# EAGLE library part 10103594-0001LF (library con-fci)
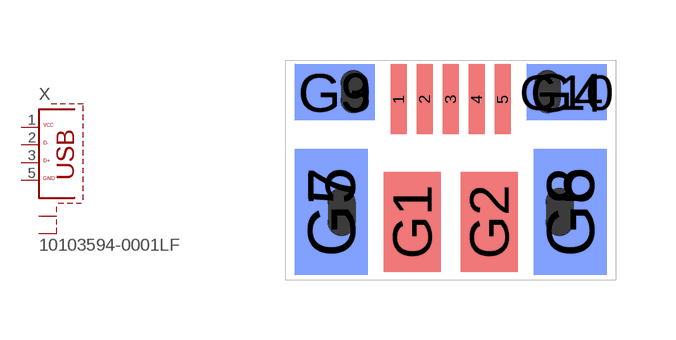
[diagram p1: symbol with the pads of USBMICROB; footprint USBMICROB]

Designator prefix X

## 10103594-0001LF  [USBMICROB]
1  VCC  pas
2  D-  pas
3  D+  pas
5  GND  pas
G1  S1  pas
G2  S2  pas
G3  S3  pas
G4  S4  pas
G5  S5  pas
G6  S6  pas
G7  S7  pas
G8  S8  pas
G9  S9  pas
G10  S10  pas

## Footprint USBMICROB (pad centres in mm)
smd 0.4 x 1.75: 1 -1.3,2.825; 2 -0.65,2.825; 3 0,2.825; 4 0.65,2.825; 5 1.3,2.825
smd 1.425 x 2.5: G1 -0.963,-0.25; G2 0.963,-0.25
smd 2 x 1.4: G3 -2.9,3; G4 2.9,3
smd 1.825 x 3.15: G5 -2.987,0; G6 2.987,0
smd 1.825 x 3.15 bottom: G7 -2.987,0; G8 2.987,0
smd 2 x 1.4 bottom: G9 -2.9,3; G10 2.9,3